# Altium schematic symbol library Schlib1.SchLib: 2 symbols
Pins are listed as number, name and electrical type; pins without a type are passive.

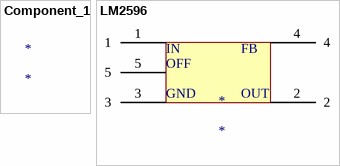
[diagram p0: symbols Component_1 to LM2596]

## Component_1
designator *

## LM2596
designator *
pins: 1, 2, 3, 4, 5
text: IN; FB; OFF; GND; OUT